# Altium schematic symbol library TLV9104IDR.SchLib: 1 symbol
Pins are listed as number, name and electrical type; pins without a type are passive.

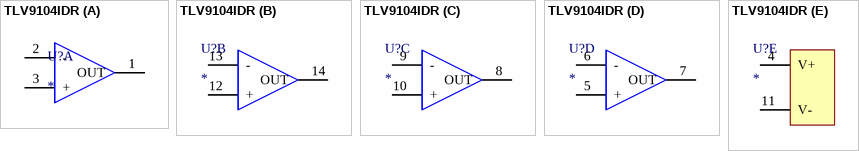
[diagram p0: symbol TLV9104IDR]

## TLV9104IDR
designator U?
Value: *
part A pins: 1 OUT, 2 -, 3 +
part B pins: 12 +, 13 -, 14 OUT
part C pins: 8 OUT, 9 -, 10 +
part D pins: 5 +, 6 -, 7 OUT
part E pins: 4 V+, 11 V-